# EAGLE library part RELAY-TELEDYNE-172D (library 1A-meinLib)
Centigrid Relays, DPDT, internal Diode, series 172, Teledyne
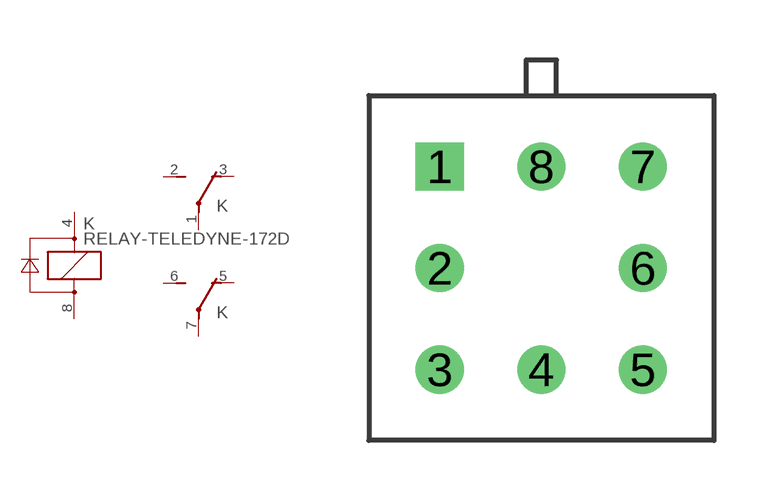
[diagram p70: symbol with the pads of RELAY-TELEDYNE-172; footprint RELAY-TELEDYNE-172]

Designator prefix K; gates G$1=K-DIODE G$2=U G$3=U

## RELAY-TELEDYNE-172D  [RELAY-TELEDYNE-172]
1  G$2:P  pas
2  G$2:S  pas
3  G$2:O  pas
4  G$1:1  pas
5  G$3:O  pas
6  G$3:S  pas
7  G$3:P  pas
8  G$1:2  pas

## Footprint RELAY-TELEDYNE-172 (pad centres in mm)
drill 0.7 square: 1 0,0
drill 0.7 round: 2 0,-2.54; 3 0,-5.08; 4 2.54,-5.08; 5 5.08,-5.08; 6 5.08,-2.54; 7 5.08,0; 8 2.54,0